# Altium schematic symbol library Maxim.SchLib: 1 symbol
Pins are listed as number, name and electrical type; pins without a type are passive.

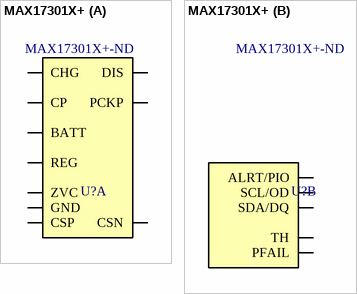
[diagram p0: symbol MAX17301X+]

## MAX17301X+
designator U?, comment Supplier Part Number 1: MAX17301X+-ND  (hidden comment: IC BATT FUEL LI-ION 1 CELL 15WLP)
Battery Fuel Gauge IC Lithium Ion/Polymer 15-WLP (1.68x2.45); Supplier 1: Digi-Key; ComponentLink1Description: Datasheet; ComponentLink1URL: https://datasheets.maximintegrated.com/en/ds/MAX17301-MAX17313.pdf
footprint BGA15C50P5X3_250X170X64 (BGA, 15-Leads, Body 2.50x1.70mmx0.64mm, Pitch 0.50mm)
part A pins: A2 GND, A3 CSP, A4 CSN, A5 REG, B1 CP, B3 ZVC, C1 BATT, C2 CHG, C3 DIS, C4 PCKP
part B pins: A1 TH, B2 PFAIL, B4 ALRT/PIO, B5 SCL/OD, C5 SDA/DQ